# Altium schematic symbol library CAP,Cer,4.7pF,50VDC,C0G,0402.Schlib: 1 symbol
Pins are listed as number, name and electrical type; pins without a type are passive.

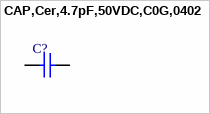
[diagram p0: symbol CAP,Cer,4.7pF,50VDC,C0G,0402]

## CAP,Cer,4.7pF,50VDC,C0G,0402
designator C?
pins: 1, 2